# Altium integrated library Diodes.IntLib: 6 symbols
Pins are listed as number, name and electrical type; pins without a type are passive.

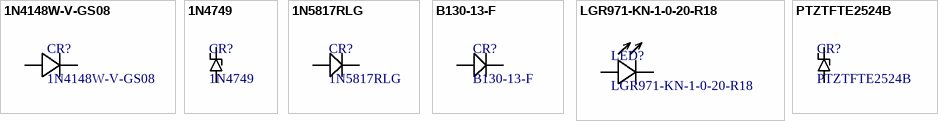
[diagram p0: symbols 1N4148W-V-GS08 to PTZTFTE2524B]

## 1N4148W-V-GS08
designator CR?
No Description Available; Vendor: Vishay; Built_By: EMA_UL_Team; SourceLibrary: Vishay_2020-02-10; Type: DEV; Manufacturer_Part_Number: 1N4148W-V-GS08; Copyright: Copyright (C) 2018 Accelerated Designs. All rights reserved; RefDes: RefDes
footprint SOD123_VIS-M
pins: 1, 2

## 1N4749
designator CR?
Zener 1W 24V DO-41; Manufacturer_Part_Number: B130-13-F; Vendor: Diodes Inc; Built_By: EMA_UL_Team; SourceLibrary: DiodesInc_2015-05-08; Type: DEV; Copyright: Copyright (C) 2018 Accelerated Designs. All rights reserved; RefDes: RefDes
footprint DO-41_ONS
pins: 1, 2

## 1N5817RLG
designator CR?
DIODE SCHOTTKY 20V 1A AXIAL; Manufacturer_Part_Number: B130-13-F; Vendor: Diodes Inc; Built_By: EMA_UL_Team; SourceLibrary: DiodesInc_2015-05-08; Type: DEV; Copyright: Copyright (C) 2018 Accelerated Designs. All rights reserved; RefDes: RefDes
footprint CASE_59-10_ONS
pins: 1, 2

## B130-13-F
designator CR?
Diodi Schottky 30V 1A A; Vendor: Diodes Inc; Built_By: EMA_UL_Team; SourceLibrary: DiodesInc_2015-05-08; Type: DEV; Manufacturer_Part_Number: B130-13-F; Copyright: Copyright (C) 2018 Accelerated Designs. All rights reserved; RefDes: RefDes
footprint SMA_DIO-M(MY_BIG)
pins: 1, 2

## LGR971-KN-1-0-20-R18
designator LED?
Led Green 0805; Vendor: Osram; Built_By: EMA_Cory; SourceLibrary: Osram_2020-05-27; Type: DEV; Datasheet: https://dammedia.osram.info/media/resource/hires/osram-dam-2493936/LG%20R971.pdf; Manufacturer_Part_Number: LGR971-KN-1-0-20-R18; Copyright: Copyright (C) 2018 Accelerated Designs. All rights reserved; RefDes: RefDes
footprint LED_LGR971
pins: 1, 2

## PTZTFTE2524B
designator CR?
Zener 1W 24V  DO-214AC-2; Manufacturer_Part_Number: B130-13-F; Vendor: Diodes Inc; Built_By: EMA_UL_Team; SourceLibrary: DiodesInc_2015-05-08; Type: DEV; Copyright: Copyright (C) 2018 Accelerated Designs. All rights reserved; RefDes: RefDes
footprint DIOM4526X22M (Molded Diode, 2-Leads, Body 4,50x2,60mm, IPC Low Density)
pins: 1, 2